# Altium schematic symbol library CD-DF406SL.SchLib: 1 symbol
Pins are listed as number, name and electrical type; pins without a type are passive.

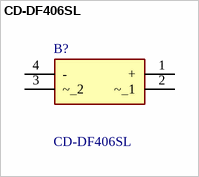
[diagram p0: symbol CD-DF406SL]

## CD-DF406SL
designator B?
Bridge Rectifiers VRRM 600V 4A SMD DFS Bridge Rectifier; Manufacturer_Name: Bourns; Geometry.Height: 1.55mm; Manufacturer_Part_Number: CD-DF406SL; Mouser Part Number: 652-CD-DF406SL; Mouser Price/Stock: https://www.mouser.co.uk/ProductDetail/Bourns/CD-DF406SL?qs=zwwtnr6GuIwJRuaaRN0u3A%3D%3D; Arrow Part Number: CD-DF406SL; Arrow Price/Stock: https://www.arrow.com/en/products/cd-df406sl/bourns?region=nac; Mouser Testing Part Number: *; Mouser Testing Price/Stock: *; Datasheet Link: http://www.bourns.com/docs/Product-Datasheets/CD-DF4xxSL.pdf
footprint CDDF406SL
pins: 1 +, 2 ~_1, 3 ~_2, 4 -